# Altium schematic symbol library Aosmd.SchLib: 2 symbols
Pins are listed as number, name and electrical type; pins without a type are passive.

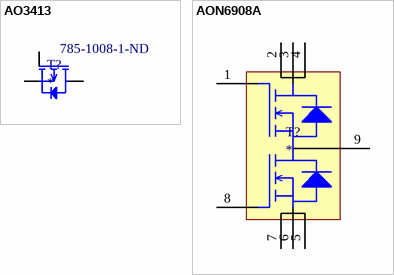
[diagram p0: symbols AO3413 to AON6908A]

## AO3413
designator T?  Supplier Part Number 1: 785-1008-1-ND
Supplier 1: Digi-Key
footprint SOT95P245X110-3L (SOT23, 3-Leads, Body 2,90x2,45mm, Pitch 0,95mm, IPC High Density)
pins: 1, 2, 3

## AON6908A
designator T?
A high efficiency synchronous buck power stage with optimal layout and board space utilization.
footprint DFN5x6B_8L_EP2_P
pins: 1, 2, 3, 4, 5, 6, 7, 8, 9